# Altium footprint library PcbLib1.PcbLib: 123 footprints (part 5 of 8)
Each footprint in its own frame and in the unit in brackets; x right, y up, seen from the top. Pads: shape width x height; smd on the part's side, far side on the other; paste and mask are expansions set on the pad; w line width, h text height; cw(c..) or ccw(c..) is an arc to the next point about the centre after c.
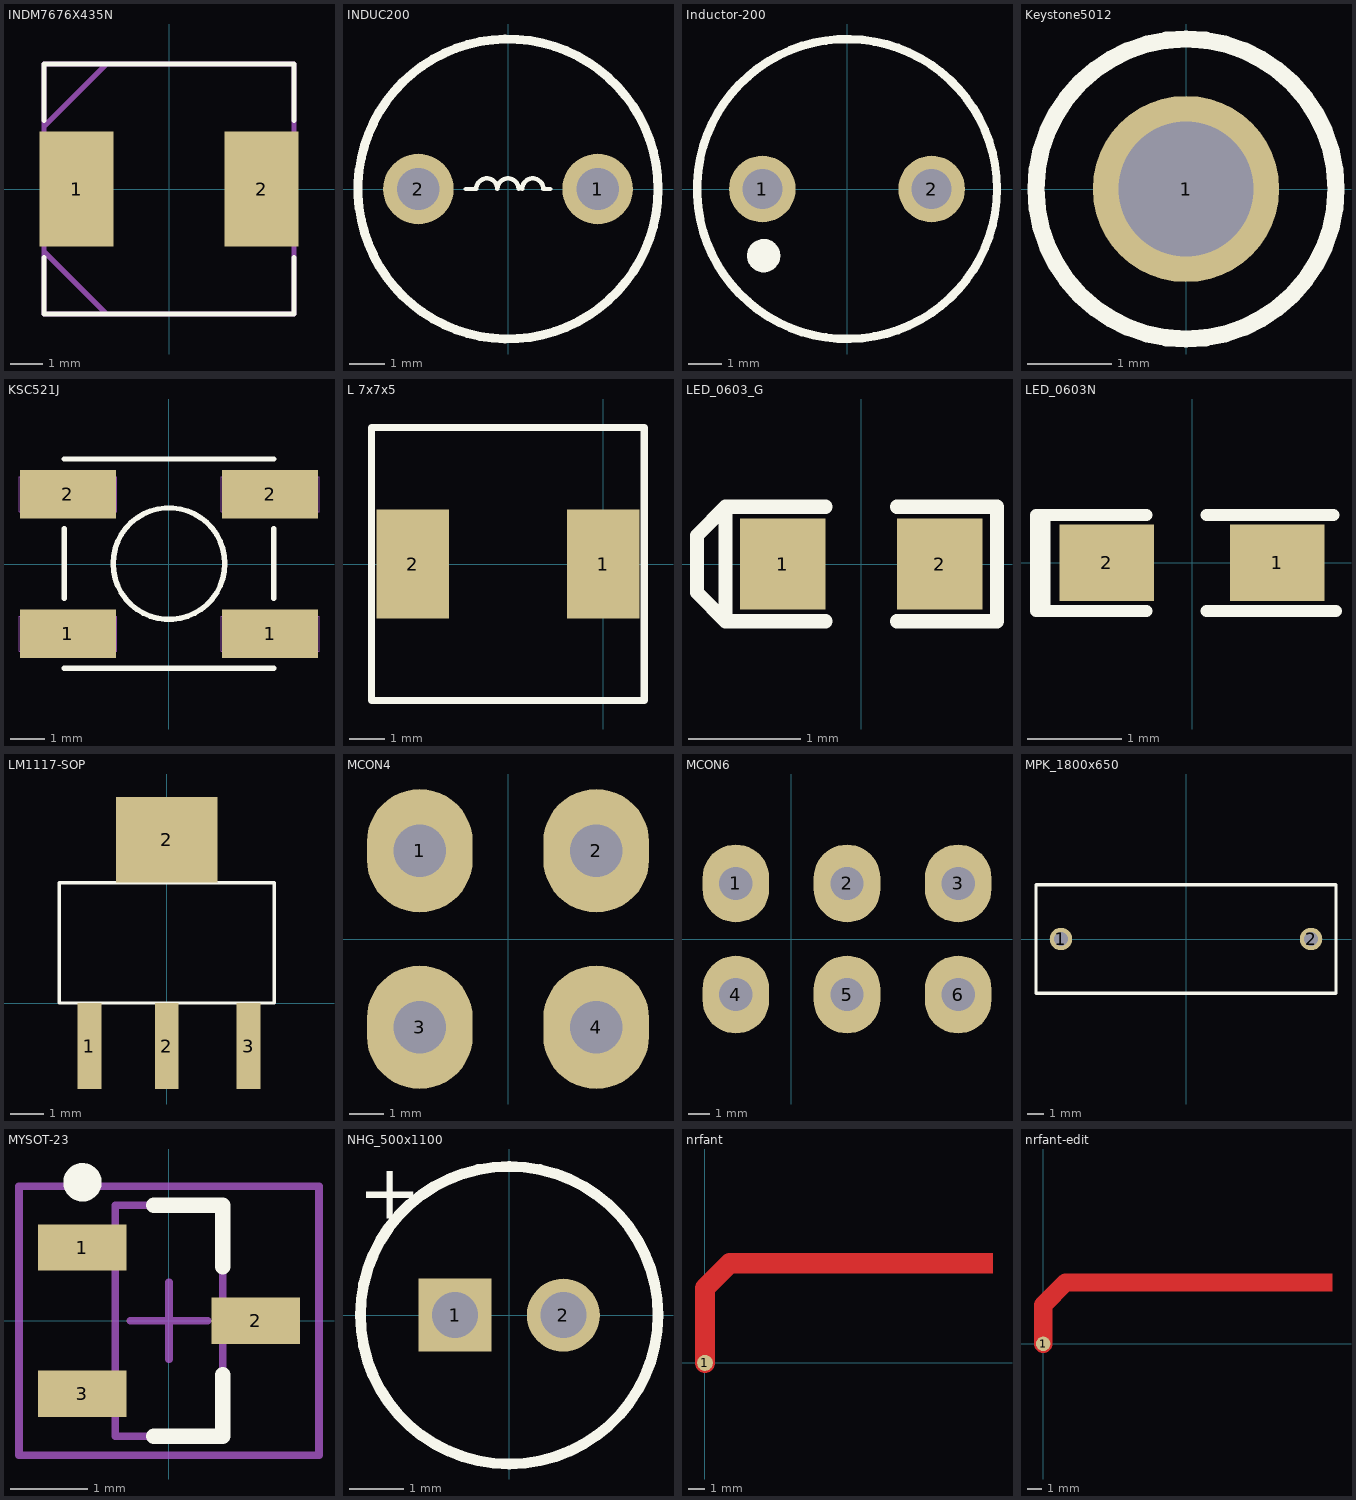
[diagram p4: the footprints below, top view; thin cyan lines are the x and y axes]

## INDM7676X435N [mil]
height 55.12
pads (2):
  rect 89x138 smd: 1(-111,0) 2(111,0)
Top Overlay:
  lines w6: -150,-82 -150,-150 150,-150 150,-82 ; -150,82 -150,150 150,150 150,82
Mechanical 1:
  lines w6: -150,-75 -75,-150 ; -150,75 -75,150 ; -150,-150 150,-150 150,150 -150,150 -150,-150
3D body: height 118.59, standoff -21.17, extent -148.61,-148.21 150.61,151

## INDUC200 [mm]
pads (2):
  round 2 hole 1.2: 1(2.54,0) 2(-2.54,0)
Top Overlay:
  circle w0.254: c0,0 r4.25
  lines w0.127: -1.2,0 -0.9,0 cw(c-0.6,0) -0.3,0 cw(c0,0) 0.3,0 ; 0.4,0 cw(c0.7,0) 1,0 1.2,0

## Inductor-200 [mm]
pads (2):
  round 2 hole 1.2: 1(-2.54,0) 2(2.54,0)
Top Overlay:
  circle w0.254: c0,0 r4.5
  circle w0.5: c-2.5,-2 r0.25

## Keystone5012 [mil] "Keystone Multipurpose loops"
height 320
pads (1):
  round 87 hole 63: 1(0,0)
Top Overlay:
  circle w7.99: c0,0 r70
Mechanical 5:
  circle w5: c0,0 r69.46
3D body: height 318.9, standoff -125.98, extent -63,-63 62.74,62.49

## KSC521J [mm] "6.2×6.2mm TACT Switch, without ground connector"
height 2.5
pads (4):
  rect 2.75x1.4 smd: 1(-2.9,-2) 1(2.901,-2) 2(-2.9,2) 2(2.901,2)
Top Overlay:
  circle w0.152: c0,0.011 r1.601
  lines w0.152: -3,-2.989 3,-2.989 ; -3,-0.989 -3,1.011 ; -3,3.011 3,3.011 ; 3,-0.989 3,1.011
Mechanical 1:
  lines w0.013: -4.299,-2.5 -4.299,-1.5 -1.499,-1.5 -1.499,-2.5 -4.299,-2.5 ; -4.299,1.5 -1.499,1.5 -1.499,2.5 -4.299,2.5 -4.299,1.5 ; 1.501,-2.5 4.301,-2.5 4.301,-1.5 1.501,-1.5 1.501,-2.5 ; 1.501,1.5 4.301,1.5 4.301,2.5 1.501,2.5 1.501,1.5
3D body: height 3.1, standoff 0, extent -4,-2.989 4,3.311

## L 7x7x5 [mm]
height 4
pads (2):
  rect 2.03x3.05 smd: 1(0,0) 2(-5.33,0)
Top Overlay:
  lines w0.2: -6.477,-3.81 -6.477,3.81 1.143,3.81 1.143,-3.81 -6.477,-3.81

## LED_0603_G [mil] "SMD Super Bright LED, GREEN"
height 23.62
pads (2):
  rect 30x32 smd: 1(-27.5,0) 2(27.5,0)
Top Overlay:
  lines w5: -12.5,-20 -47.5,-20 ; -12.5,20 -47.5,20 ; 12.5,-20 47.5,-20 47.5,20 12.5,20 ; -47.5,-20 -57.5,-10 -57.5,10 -47.5,20 ; -47.5,-20 -47.5,20
3D body: height 23.62, standoff 0, extent -31.63,-15.75 32.15,15.75

## LED_0603N [mm] "SMD Super Bright LED, GREEN"
height 0.6
pads (2):
  rect 1x0.813 smd: 1(0.9,0) 2(-0.9,0)
Top Overlay:
  rectangle: -1.651,-0.533 -1.499,0.508
  lines w0.127: -0.483,-0.508 -1.372,-0.508 -1.651,-0.508 -1.651,0.508 -1.372,0.508 -0.483,0.508 ; 0.152,-0.508 1.041,-0.508 ; 0.152,0.508 1.041,0.508 1.499,0.508 ; 0.965,-0.508 1.524,-0.508
3D body: height 0.3, standoff -0.3, extent -0.78,-0.314 0.822,0.887

## LM1117-SOP [mm]
pads (4):
  rect 0.7x2.54 smd: 1(-2.286,-1.27) 2(0,-1.27) 3(2.413,-1.27)
  rect 3x2.54 smd: 2(0,4.826)
Top Overlay:
  lines w0.1: -3.175,0 3.175,0 3.175,3.556 -3.175,3.556 -3.175,0

## MCON4 [mil]
pads (4):
  oval 120x140 hole 60: 1(-100,100) 2(100,100) 3(-100,-100) 4(100,-100)

## MCON6 [mil]
pads (6):
  oval 120x140 hole 60: 1(-100,100) 2(100,100) 3(300,100) 4(-100,-100) 5(100,-100) 6(300,-100)

## MPK_1800x650 [mm] "TH, 2-Leads, Body 18x6.5mm, Lead Spacing 15mm"
height 12
pads (2):
  round 1.35 hole 0.85: 1(-7.5,0) 2(7.5,0)
Top Overlay:
  lines w0.2: -9,-3.25 9,-3.25 9,3.25 -9,3.25 -9,-3.25
Mechanical 5:
  lines w0.1: -9,-3.25 -9,3.25 9,3.25 9,-3.25 -9,-3.25
3D body: height 12, standoff 1, extent -9,-3.25 9,3.25
3D body: height 0, standoff -2.5, extent -7.797,-0.299 -7.2,0.3
3D body: height 0, standoff -2.5, extent 7.202,-0.299 7.8,0.3
3D body: height 1.9, standoff -0.1, extent -8.49,-0.996 -6.5,0.996
3D body: height 1.9, standoff -0.1, extent 6.5,-0.996 8.49,0.996

## MYSOT-23 [mm] "SOT23, 3-Leads, Body 2.9x1.3mm, Pitch 0.95mm, Lead Span 2.4mm, IPC Medium Density"
height 1.14
pads (3):
  rect 1.15x0.6 smd: 1(-1.125,0.95) 2(1.125,0) 3(-1.125,-0.95)
Top Overlay:
  circle w0.25: c-1.125,1.8 r0.125
  lines w0.2: -0.2,-1.5 0.7,-1.5 0.7,-0.7 ; -0.2,1.5 0.7,1.5 0.7,0.7
Mechanical 13:
  lines w0.1: -0.7,-1.5 -0.7,1.5 0.7,1.5 0.7,-1.5 -0.7,-1.5
Mechanical 15:
  lines w0.1: -0.5,0 0.5,0 ; 0,-0.5 0,0.5 ; -1.95,-1.75 -1.95,1.75 1.95,1.75 1.95,-1.75 -1.95,-1.75
3D body: height 1.14, standoff 0, extent -0.7,-1.5 0.7,1.5

## NHG_500x1100 [mm] "TH, 2-Leads, Dia 5mm,  Lead Spacing 2mm"
height 12
pads (2):
  rect 1.35x1.35 hole 0.85: 1(-1,0)
  round 1.35 hole 0.85: 2(1,0)
Top Overlay:
  circle w0.2: c0,0 r2.75
  text "+" at -2.794,1.778 h1.02
Mechanical 5:
  circle w0.1: c0,0 r2.75
  text "+" at -3.8,-0.4 h1.02
3D body: height 12.51, standoff -3, extent -2.728,-2.745 2.75,2.746

## nrfant [mm]
pads (1):
  round 1 smd: 1(0,0)
Top Layer:
  region: 18.048,5.617 18.048,6.887 17.286,6.887 17.286,5.617
  lines w1.27: 0,0 0,4.689 ; 17.401,6.248 1.559,6.248 ; 0,4.689 1.559,6.248 ; 0,4.689 0,4.689 ; 1.559,6.248 1.559,6.248

## nrfant-edit [mm]
pads (1):
  round 1 smd: 1(0,0)
Top Layer:
  region: 20.048,3.617 20.048,4.887 19.286,4.887 19.286,3.617
  lines w1.27: 0,0 0,2.689 1.559,4.248 ; 1.558,4.248 19.401,4.248